# Altium footprint library PCB1.PcbLib: 29 footprints (part 1 of 2)
Each footprint in its own frame and in the unit in brackets; x right, y up, seen from the top. Pads: shape width x height; smd on the part's side, far side on the other; paste and mask are expansions set on the pad; w line width, h text height; cw(c..) or ccw(c..) is an arc to the next point about the centre after c.
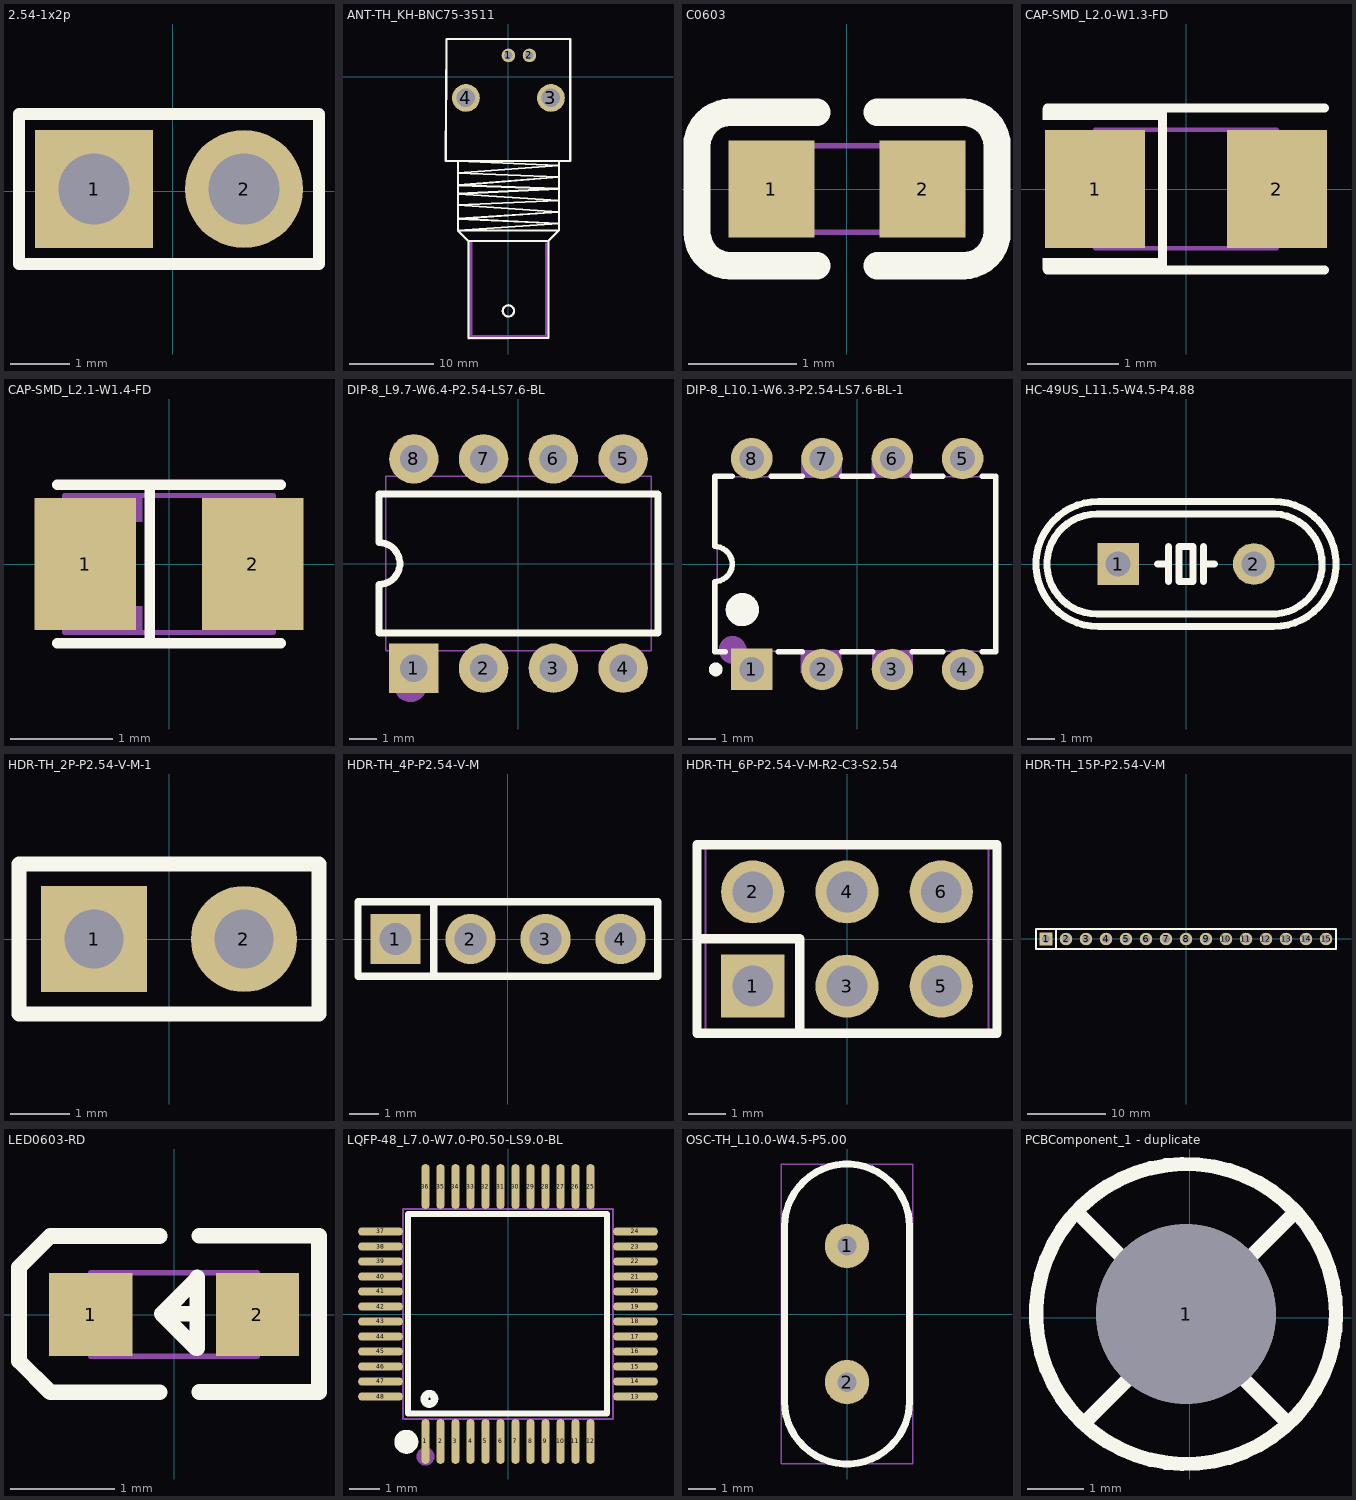
[diagram p0: the footprints below, top view; thin cyan lines are the x and y axes]

## 2.54-1x2p [mm]
pads (2):
  rect 2x2 hole 1.2: 1(-1.337,0.04)
  round 2 hole 1.2: 2(1.203,0.04)
Top Overlay:
  lines w0.203: -2.607,-1.23 2.473,-1.23 2.473,1.31 -0.702,1.31 -2.607,1.31 -2.607,-1.23
Mechanical 3:
  region: 0.883,0.36 1.523,0.36 1.523,-0.28 0.883,-0.28
  region: -1.657,0.36 -1.017,0.36 -1.017,-0.28 -1.657,-0.28
  lines w0.051: -2.607,-1.21 -2.607,1.29 2.473,1.29 2.473,-1.21 -2.607,-1.21

## ANT-TH_KH-BNC75-3511 [mil]
pads (4):
  round 63 hole 39.4 paste+0 mask+1.97: 1(0,99.4) 2(98.4,99.4)
  round 129.9 hole 86.6 paste+0 mask+1.97: 3(198.8,-99.4) 4(-198.8,-99.4)
Top Overlay:
  circle w10: c0,-1094.9 r26.3
  lines w10: -236.2,-548 236.2,-578.7 -236.2,-600.1 236.2,-633 -236.2,-663.7 236.2,-687 ; -236.2,-547.3 236.2,-523.7 -236.2,-507.3 236.2,-468.7 -236.2,-450.1 236.2,-415.1 -236.2,-394.7 ; -232.9,-718.5 236.2,-718.5 ; 236.2,-686.7 -236.2,-718.7 ; -236.2,-718.7 -187.2,-767.7 ; -236.2,-718.7 -236.2,-394.7 ; -236.2,-394.7 236.2,-394.7 ; -236.2,-394.7 -293.1,-394.7 -289.4,176.2 289.4,176.2 289.4,-394.7 236.2,-394.7 ; -187.2,-767.7 187,-767.7 ; -187.2,-767.7 -187,-767.7 -187,-1221.4 187,-1221.4 187,-767.7 ; 187,-767.7 236.2,-718.5 ; 236.2,-718.5 236.2,-394.7
Mechanical 6:
  region: -185,-771.7 -185,-1220.5 189,-1220.5 189,-775.6 177.2,-775.6 173.2,-775.6 173.2,-1208.7 -169.3,-1208.7 -169.3,-771.7
Mechanical 15:
  lines w2: -293.1,-394.7 -289.4,176.2 289.4,176.2 289.4,-394.7 236.1,-394.7 236.1,-718.7 187,-767.8 187,-1221.5 -187,-1226.1 -187,-767.8 -236.1,-718.7 -236.1,-394.7 -293.1,-394.7

## C0603 [mm]
pads (2):
  rect 0.8x0.9 smd: 1(-0.7,0) 2(0.7,0)
Top Overlay:
  lines w0.254: -1.08,-0.71 -0.28,-0.71 ; -1.08,0.71 -0.28,0.71 ; -1.08,-0.71 cw(c-1.08,-0.4) -1.39,-0.4 -1.39,0.4 cw(c-1.08,0.4) -1.08,0.71 ; 0.28,-0.71 1.08,-0.71 ccw(c1.08,-0.4) 1.39,-0.4 1.39,0.4 ccw(c1.08,0.4) 1.08,0.71 0.28,0.71
Mechanical 15:
  region: -0.8,-0.4 -0.8,0.4 -0.5,0.4 -0.5,-0.4
  region: 0.8,-0.4 0.8,0.4 0.5,0.4 0.5,-0.4
  lines w0.051: -0.8,-0.4 -0.8,0.4 0.8,0.4 0.8,-0.4 -0.8,-0.4

## CAP-SMD_L2.0-W1.3-FD [mm]
pads (2):
  rect 1.1x1.3 smd paste+0 mask+0.05: 1(-1,0) 2(1,0)
Top Overlay:
  region: -1.574,-0.889 -1.574,-0.762 -0.307,-0.762 -0.304,-0.762 -0.304,-0.889
  region: -0.304,0.889 -0.304,0.762 -1.571,0.762 -1.574,0.762 -1.574,0.889
  lines w0.1: -1.524,-0.889 1.524,-0.889 ; -1.524,0.889 1.524,0.889 ; -0.285,0.889 -0.257,0.889 -0.257,-0.889
Mechanical 6:
  region: -0.641,0.645 -0.459,0.645 -0.459,0.368 -0.639,0.368 -0.639,0.369
  region: -0.641,-0.367 -0.459,-0.367 -0.459,-0.644 -0.639,-0.644 -0.639,-0.642
  region: -1.29,0.19 -0.589,0.19 -0.589,0.061 -1.292,0.061 -1.292,0.078
  region: -1.019,-0.294 -1.019,0.407 -0.891,0.407 -0.891,-0.296 -0.907,-0.296
  region: 0.638,0.085 1.339,0.085 1.339,-0.044 0.637,-0.044 0.637,-0.027
Mechanical 15:
  region: -1,-0.45 -1,0.45 -0.55,0.45 -0.55,-0.45
  region: 0.55,-0.45 0.55,0.45 1,0.45 1,-0.45
  lines w0.051: -1,-0.65 -1,0.65 1,0.65 1,-0.65 -1,-0.65

## CAP-SMD_L2.1-W1.4-FD [mm]
pads (2):
  rect 1x1.3 smd: 1(-0.825,0) 2(0.825,0)
Top Overlay:
  lines w0.1: -1.1,-0.78 1.102,-0.78 ; -1.1,0.78 1.102,0.78 ; -0.19,-0.751 -0.19,0.751
Mechanical 6:
  region: -1.13,-0.08 -1.13,0.082 -0.482,0.082 -0.482,-0.08
  region: 1.28,-0.08 1.28,0.082 0.632,0.082 0.632,-0.08
  region: -0.887,-0.539 -0.887,0.541 -0.725,0.541 -0.725,-0.539
  region: -0.475,0.675 -0.265,0.675 -0.265,0.415 -0.475,0.415
  region: -0.265,-0.675 -0.475,-0.675 -0.475,-0.415 -0.265,-0.415
Mechanical 15:
  region: -1.025,-0.5 -0.525,-0.5 -0.525,0.5 -1.025,0.5
  region: 1.025,-0.5 0.525,-0.5 0.525,0.5 1.025,0.5
  lines w0.051: -1.025,-0.675 1.025,-0.675 1.025,0.675 -1.025,0.675 -1.025,-0.675

## DIP-8_L9.7-W6.4-P2.54-LS7.6-BL [mm]
pads (8):
  rect 1.8x1.8 hole 1 paste+0 mask+0.05: 1(-3.81,-3.81)
  round 1.8 hole 1 paste+0 mask+0.05: 2(-1.27,-3.81) 3(1.27,-3.81) 4(3.81,-3.81) 5(3.81,3.81) 6(1.27,3.81) 7(-1.27,3.81) 8(-3.81,3.81)
Top Overlay:
  lines w0.254: -5.08,-2.531 5.08,-2.531 5.08,2.534 -5.08,2.534 -5.08,0.762 cw(c-5.08,0) -5.08,-0.762 -5.08,-2.531
Mechanical 6:
  circle w0.6: c-3.937,-4.445 r0.3
Mechanical 15:
  region: -4.038,3.683 -4.038,3.937 -3.582,3.937 -3.582,3.683
  region: -1.498,3.683 -1.498,3.937 -1.042,3.937 -1.042,3.683
  region: 1.042,3.683 1.042,3.937 1.498,3.937 1.498,3.683
  region: 3.582,3.683 3.582,3.937 4.038,3.937 4.038,3.683
  region: 3.582,-3.937 3.582,-3.683 4.038,-3.683 4.038,-3.937
  region: 1.042,-3.937 1.042,-3.683 1.498,-3.683 1.498,-3.937
  region: -1.498,-3.937 -1.498,-3.683 -1.042,-3.683 -1.042,-3.937
  region: -4.038,-3.683 -3.582,-3.683 -3.582,-3.937 -4.038,-3.937
  region: 0.65,3.937 1.9,3.937 1.9,3.165 0.65,3.165
  region: -1.89,3.937 -0.64,3.937 -0.64,3.165 -1.89,3.165
  region: 1.89,-3.937 0.64,-3.937 0.64,-3.165 1.89,-3.165
  region: -0.65,-3.937 -1.9,-3.937 -1.9,-3.165 -0.65,-3.165
  region: -4.038,-3.937 -3.19,-3.937 -3.19,-3.155 -4.038,-3.155
  region: 4.038,3.937 3.19,3.937 3.19,3.155 4.038,3.155
  region: -3.19,3.937 -4.038,3.937 -4.038,3.155 -3.19,3.155
  region: 3.19,-3.937 4.038,-3.937 4.038,-3.155 3.19,-3.155
  lines w0.051: -4.826,-3.175 4.826,-3.175 4.826,3.175 -4.826,3.175 -4.826,-3.175

## DIP-8_L10.1-W6.3-P2.54-LS7.6-BL-1 [mm]
pads (8):
  rect 1.5x1.5 hole 0.9: 1(-3.81,-3.81)
  round 1.5 hole 0.9: 2(-1.27,-3.81) 3(1.27,-3.81) 4(3.81,-3.81) 5(3.81,3.81) 6(1.27,3.81) 7(-1.27,3.81) 8(-3.81,3.81)
Top Overlay:
  lines w0.2: -5.151,-0.635 ccw(c-5.151,0) -5.151,0.635 ; -5.15,-0.635 -5.15,-3.175 -4.764,-3.175 ; -5.15,0.635 -5.15,3.175 -4.521,3.175 ; -3.099,3.175 -1.981,3.175 ; -2.856,-3.175 -1.981,-3.175 ; -0.559,-3.175 0.559,-3.175 ; -0.559,3.175 0.559,3.175 ; 1.981,-3.175 3.099,-3.175 ; 1.981,3.175 3.099,3.175 ; 4.521,-3.175 5.004,-3.175 ; 4.521,3.175 4.9,3.175 ; 5.01,-3.175 5.01,3.175
  lines w0.25: -5.235,-3.81 ccw(c-5.11,-3.809) -5.235,-3.807
  lines w0.6: -4.45,-1.651 ccw(c-4.15,-1.648) -4.45,-1.646
Mechanical 6:
  circle w0.5: c-4.5,-3.1 r0.25
Mechanical 15:
  region: -2.032,-3.928 -2.032,-3.113 -0.572,-3.113 -0.572,-3.928
  region: 0.538,-3.938 0.538,-3.123 1.998,-3.123 1.998,-3.938
  region: 0.52,3.12 0.52,3.935 1.98,3.935 1.98,3.12
  region: 4.166,-3.11 4.166,-3.925 3.436,-3.925 3.436,-3.11
  region: -3.444,-3.12 -3.444,-3.935 -4.174,-3.935 -4.174,-3.12
  region: 3.446,3.121 3.446,3.936 4.176,3.936 4.176,3.121
  region: -4.174,3.121 -4.174,3.936 -3.444,3.936 -3.444,3.121
  region: -2.02,3.12 -2.02,3.935 -0.56,3.935 -0.56,3.12
  region: 3.582,3.685 3.582,3.935 4.038,3.935 4.038,3.685
  region: 1.042,3.685 1.042,3.935 1.498,3.935 1.498,3.685
  region: -1.498,3.685 -1.498,3.935 -1.042,3.935 -1.042,3.685
  region: -4.038,3.685 -4.038,3.935 -3.582,3.935 -3.582,3.685
  region: 3.582,-3.935 3.582,-3.685 4.038,-3.685 4.038,-3.935
  region: 1.042,-3.935 1.042,-3.685 1.498,-3.685 1.498,-3.935
  region: -1.498,-3.935 -1.498,-3.685 -1.042,-3.685 -1.042,-3.935
  region: -3.582,-3.935 -4.038,-3.935 -4.038,-3.685 -3.582,-3.685
  lines w0.051: -5.05,-3.15 5.05,-3.15 5.05,3.15 -5.05,3.15 -5.05,-3.15

## HC-49US_L11.5-W4.5-P4.88 [mm]
pads (2):
  rect 1.5x1.5 hole 0.9: 1(-2.44,0)
  round 1.5 hole 0.9: 2(2.44,0)
Top Overlay:
  lines w0.254: -3.2,1.8 3.2,1.8 cw(c3.093,0) 3,-1.801 ; -3.2,1.801 ccw(c-3.2,0) -3.2,-1.8 3,-1.8 ; -1.016,0 -0.635,0 ; -0.635,-0.635 -0.635,0 ; -0.635,0.635 -0.635,0 ; 0.635,-0.635 0.635,0 ; 0.635,0.635 0.635,0 ; 1.016,0 0.635,0 ; -3.15,-2.25 cw(c-3.142,0) -3.15,2.25 3.15,2.25 cw(c3.142,0) 3.15,-2.25 -3.15,-2.25 ; -0.254,-0.635 0.254,-0.635 0.254,0.635 -0.254,0.635 -0.254,-0.635
Mechanical 15:
  lines w0.051: -5.392,0 ccw(c-3.142,0) -3.15,-2.25 3.142,-2.25 ccw(c3.142,0) 5.392,0 ccw(c3.142,0) 3.142,2.25 -3.15,2.25 ccw(c-3.142,0) -5.392,0

## HDR-TH_2P-P2.54-V-M-1 [mm]
pads (2):
  rect 1.8x1.8 hole 1 paste+0 mask+0.051: 1(-1.27,0)
  round 1.8 hole 1 paste+0 mask+0.051: 2(1.27,0)
Top Overlay:
  lines w0.254: -2.54,-1.27 -2.54,1.27 2.54,1.27 2.54,-1.27 -2.54,-1.27
Mechanical 15:
  region: 0.95,0.32 1.59,0.32 1.59,-0.32 0.95,-0.32
  region: -1.59,0.32 -0.95,0.32 -0.95,-0.32 -1.59,-0.32
  lines w0.051: -2.54,-1.27 2.54,-1.27 2.54,1.27 -2.54,1.27 -2.54,-1.27

## HDR-TH_4P-P2.54-V-M [mm]
pads (4):
  rect 1.7x1.7 hole 1.1: 1(-3.81,0)
  round 1.7 hole 1.1: 2(-1.27,0) 3(1.27,0) 4(3.81,0)
Top Overlay:
  lines w0.254: -2.516,-1.27 -2.516,1.27 ; -2.516,1.27 -5.08,1.27 -5.08,-1.27 5.08,-1.27 5.08,1.27 -2.516,1.27
Mechanical 15:
  region: 3.49,0.32 4.13,0.32 4.13,-0.32 3.49,-0.32
  region: 0.95,0.32 1.59,0.32 1.59,-0.32 0.95,-0.32
  region: -1.59,0.32 -0.95,0.32 -0.95,-0.32 -1.59,-0.32
  region: -4.13,0.32 -3.49,0.32 -3.49,-0.32 -4.13,-0.32
  lines w0.051: -5.08,-1.25 5.08,-1.25 5.08,1.25 -5.08,1.25 -5.08,-1.25

## HDR-TH_6P-P2.54-V-M-R2-C3-S2.54 [mm]
pads (6):
  rect 1.7x1.7 hole 1.1: 1(-2.54,-1.27)
  round 1.7 hole 1.1: 2(-2.54,1.27) 3(0,-1.27) 4(0,1.27) 5(2.54,-1.27) 6(2.54,1.27)
Top Overlay:
  lines w0.254: -4.04,0.007 -1.27,0.007 -1.27,-2.54 ; -4.04,-2.54 -4.04,2.54 4.04,2.54 4.04,-2.54 -4.04,-2.54
Mechanical 15:
  region: -2.86,-0.95 -2.22,-0.95 -2.22,-1.59 -2.86,-1.59
  region: -2.86,1.59 -2.22,1.59 -2.22,0.95 -2.86,0.95
  region: -0.32,-0.95 0.32,-0.95 0.32,-1.59 -0.32,-1.59
  region: -0.32,1.59 0.32,1.59 0.32,0.95 -0.32,0.95
  region: 2.22,-0.95 2.86,-0.95 2.86,-1.59 2.22,-1.59
  region: 2.22,1.59 2.86,1.59 2.86,0.95 2.22,0.95
  lines w0.051: -3.81,-2.5 3.81,-2.5 3.81,2.5 -3.81,2.5 -3.81,-2.5

## HDR-TH_15P-P2.54-V-M [mm]
pads (15):
  rect 1.6x1.6 hole 1.05 paste+0 mask+0.05: 1(-17.78,0)
  round 1.6 hole 1.05 paste+0 mask+0.05: 2(-15.24,0) 3(-12.7,0) 4(-10.16,0) 5(-7.62,0) 6(-5.08,0) 7(-2.54,0) 8(0,0) 9(2.54,0) 10(5.08,0) 11(7.62,0) 12(10.16,0) 13(12.7,0) 14(15.24,0) 15(17.78,0)
Top Overlay:
  lines w0.254: -16.51,-1.25 -16.507,1.25 ; -19.05,-1.25 -19.05,1.25 19.05,1.25 19.05,-1.25 -19.05,-1.25
Mechanical 15:
  region: -18.1,0.32 -17.46,0.32 -17.46,-0.32 -18.1,-0.32
  region: -15.56,0.32 -14.92,0.32 -14.92,-0.32 -15.56,-0.32
  region: -13.02,0.32 -12.38,0.32 -12.38,-0.32 -13.02,-0.32
  region: -10.48,0.32 -9.84,0.32 -9.84,-0.32 -10.48,-0.32
  region: -7.94,0.32 -7.3,0.32 -7.3,-0.32 -7.94,-0.32
  region: -5.4,0.32 -4.76,0.32 -4.76,-0.32 -5.4,-0.32
  region: -2.86,0.32 -2.22,0.32 -2.22,-0.32 -2.86,-0.32
  region: -0.32,0.32 0.32,0.32 0.32,-0.32 -0.32,-0.32
  region: 2.22,0.32 2.86,0.32 2.86,-0.32 2.22,-0.32
  region: 4.76,0.32 5.4,0.32 5.4,-0.32 4.76,-0.32
  region: 7.3,0.32 7.94,0.32 7.94,-0.32 7.3,-0.32
  region: 9.84,0.32 10.48,0.32 10.48,-0.32 9.84,-0.32
  region: 12.38,0.32 13.02,0.32 13.02,-0.32 12.38,-0.32
  region: 14.92,0.32 15.56,0.32 15.56,-0.32 14.92,-0.32
  region: 17.46,0.32 18.1,0.32 18.1,-0.32 17.46,-0.32
  lines w0.051: -19.05,-1.25 -19.05,1.25 19.05,1.25 19.05,-1.25 -19.05,-1.25

## LED0603-RD [mm]
pads (2):
  rect 0.8x0.8 smd: 1(-0.799,0) 2(0.799,0)
Top Overlay:
  lines w0.15: -0.14,-0.746 -1.19,-0.746 -1.49,-0.446 -1.49,-0.346 -1.49,0.354 -1.49,0.454 -1.19,0.754 -0.14,0.754 ; 0.22,0.007 -0.12,0.007 ; 0.24,-0.744 1.39,-0.744 ; 0.24,0.757 1.39,0.757 1.39,-0.723 ; -0.12,0.007 0.22,0.347 0.22,0.357 0.22,-0.324 0.21,-0.324 -0.12,0.007
Mechanical 6:
  region: 0.529,0.068 1.069,0.068 1.069,-0.062 0.529,-0.062
  region: 0.735,-0.267 0.735,0.273 0.865,0.273 0.865,-0.267
  region: -1.07,0.062 -0.53,0.062 -0.53,-0.068 -1.07,-0.068
Mechanical 15:
  region: 0.5,-0.396 0.5,0.404 0.8,0.404 0.8,-0.396
  region: -0.8,-0.403 -0.8,0.397 -0.5,0.397 -0.5,-0.403
  lines w0.051: -0.8,-0.4 0.8,-0.4 0.8,0.4 -0.8,0.4 -0.8,-0.4

## LQFP-48_L7.0-W7.0-P0.50-LS9.0-BL [mm]
pads (48):
  oval 0.27x1.5 smd paste+0 mask+0.05: 1(-2.75,-4.25) 2(-2.25,-4.25) 3(-1.75,-4.25) 4(-1.25,-4.25) 5(-0.75,-4.25) 6(-0.25,-4.25) 7(0.25,-4.25) 8(0.75,-4.25) 9(1.25,-4.25) 10(1.75,-4.25) 11(2.25,-4.25) 12(2.75,-4.25) 25(2.75,4.25) 26(2.25,4.25) 27(1.75,4.25) 28(1.25,4.25) 29(0.75,4.25) 30(0.25,4.25) 31(-0.25,4.25) 32(-0.75,4.25) 33(-1.25,4.25) 34(-1.75,4.25) 35(-2.25,4.25) 36(-2.75,4.25)
  oval 1.5x0.27 smd paste+0 mask+0.05: 13(4.25,-2.75) 14(4.25,-2.25) 15(4.25,-1.75) 16(4.25,-1.25) 17(4.25,-0.75) 18(4.25,-0.25) 19(4.25,0.25) 20(4.25,0.75) 21(4.25,1.25) 22(4.25,1.75) 23(4.25,2.25) 24(4.25,2.75) 37(-4.25,2.75) 38(-4.25,2.25) 39(-4.25,1.75) 40(-4.25,1.25) 41(-4.25,0.75) 42(-4.25,0.25) 43(-4.25,-0.25) 44(-4.25,-0.75) 45(-4.25,-1.25) 46(-4.25,-1.75) 47(-4.25,-2.25) 48(-4.25,-2.75)
Top Overlay:
  circle w0.254: c-2.62,-2.83 r0.17
  lines w0.2: -2.896,3.34 3.302,3.34 3.302,-3.315 -3.327,-3.315 -3.327,3.34 -2.565,3.34
  lines w0.4: -3.39,-4.06 ccw(c-3.389,-4.26) -3.387,-4.06
Mechanical 6:
  circle w0.3: c-2.75,-4.75 r0.15
Mechanical 15:
  drawing of 100 lines, arcs and shapes, not listed

## OSC-TH_L10.0-W4.5-P5.00 [mm]
pads (2):
  round 1.6 hole 0.7: 1(0,2.45) 2(0,-2.45)
Top Overlay:
  lines w0.254: -2.248,-3.15 ccw(c0,-3.15) 2.248,-3.15 2.248,3.15 ccw(c0,3.15) -2.248,3.15 -2.248,-3.15
Mechanical 15:
  lines w0.051: -2.375,-5.397 -2.375,5.397 2.375,5.397 2.375,-5.397 -2.375,-5.397

## PCBComponent_1 - duplicate [mil]
pads (1):
  round 126 hole 126 paste+0 mask+4: 1(-2.5,2.5)
Top Overlay:
  circle w10: c-2.5,2.5 r105
  lines w10: -77.5,72.5 67.5,-72.5 ; -72.5,-72.5 72.5,72.5